# Altium schematic symbol library Schlib1.SchLib: 25 symbols
Pins are listed as number, name and electrical type; pins without a type are passive.

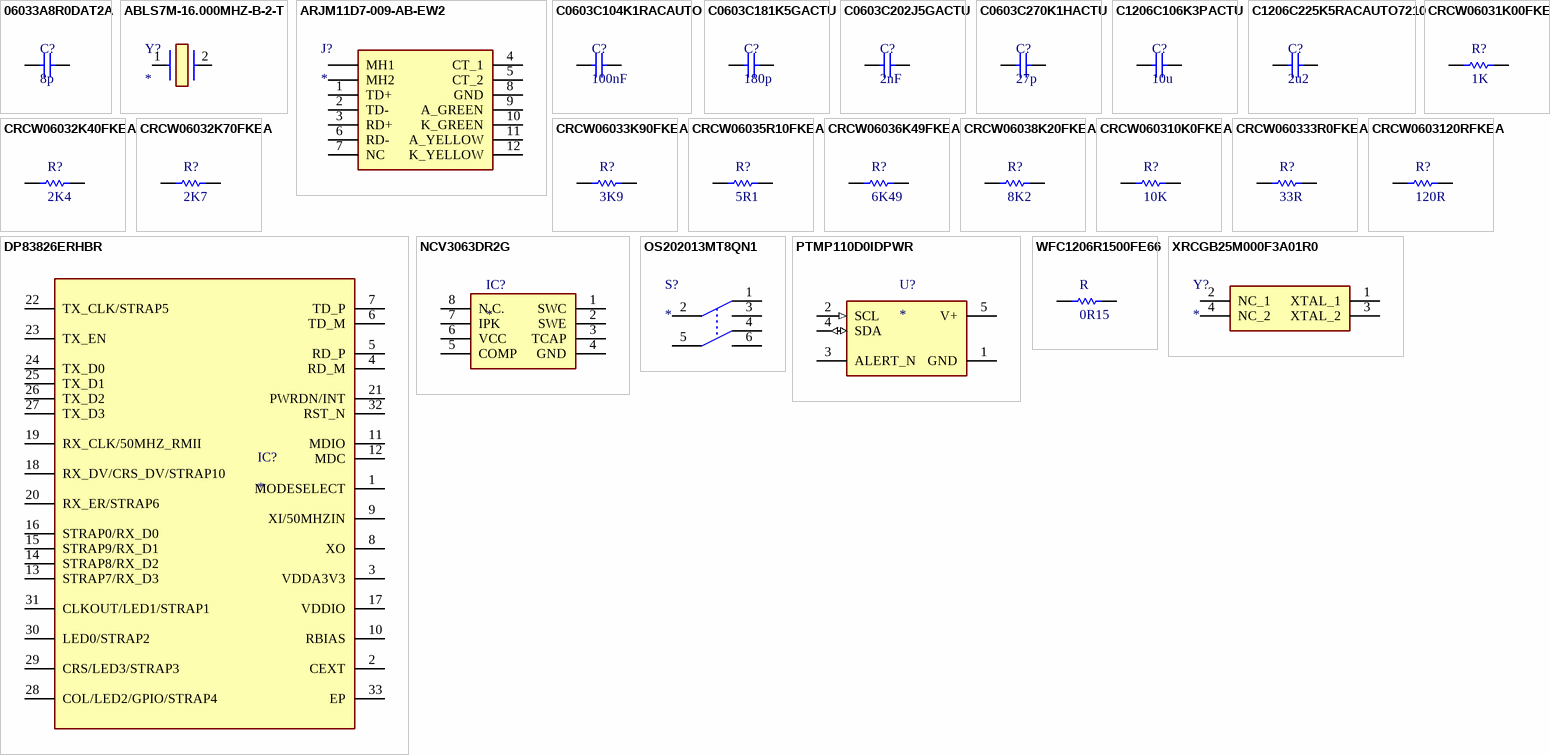
[diagram p0: symbols 06033A8R0DAT2A to XRCGB25M000F3A01R0]

## 06033A8R0DAT2A
designator C?, comment 8p
Capacitor 25V / 0603; Value: 8p
footprint 0603
pins: 1, 2

## ABLS7M-16.000MHZ-B-2-T
designator Y?
Crystal or Oscillator; Manufacturer_Name: ABRACON; Manufacturer_Part_Number: ABLS7M-16.000MHZ-B-2-T; Datasheet Link: https://abracon.com/Resonators/ABLS7M.pdf; Height: 2.3mm; Mouser Part Number: 815-ABLS7M-16-B-2-T; Mouser Price/Stock: https://www.mouser.co.uk/ProductDetail/ABRACON/ABLS7M-16.000MHZ-B-2-T?qs=%252Bk6%2F5FB6qrn1VjId6JGmFw%3D%3D; Arrow Part Number: ABLS7M-16.000MHZ-B-2-T; Arrow Price/Stock: https://www.arrow.com/en/products/abls7m-16.000mhz-b-2-t/abracon?region=nac
footprint ABLS7
pins: 1, 2

## ARJM11D7-009-AB-EW2
designator J?
Connector; Manufacturer_Name: ABRACON; Manufacturer_Part_Number: ARJM11D7-009-AB-EW2; Datasheet Link: https://abracon.com/Magnetics/ARJM11.pdf; Height: 14.05mm; Mouser Part Number: 815-RJM11D7009ABEW2; Mouser Price/Stock: https://www.mouser.co.uk/ProductDetail/ABRACON/ARJM11D7-009-AB-EW2?qs=YCa%2FAAYMW01wgGAVSiGYdQ%3D%3D; Arrow Part Number: ARJM11D7-009-AB-EW2; Arrow Price/Stock: https://www.arrow.com/en/products/arjm11d7-009-ab-ew2/abracon?utm_currency=USD&region=europe
footprint ARJM11D7009ABEW2
pins: 1 TD+, 2 TD-, 3 RD+, 4 CT_1, 5 CT_2, 6 RD-, 7 NC, 8 GND, 9 A_GREEN, 10 K_GREEN, 11 A_YELLOW, 12 K_YELLOW, MH1, MH2

## C0603C104K1RACAUTO
designator C?, comment 100nF
Capacitor 100V / 0603; Value: 100n
footprint 0603
pins: 1, 2

## C0603C181K5GACTU
designator C?, comment 180p
Capacitor 50V / 0603; Value: 180pF
footprint 0603
pins: 1, 2

## C0603C202J5GACTU
designator C?, comment 2nF
Capacitor 50V / 0603; Value: 2nF
footprint 0603
pins: 1, 2

## C0603C270K1HACTU
designator C?, comment 27p
Capacitor 100V / 0603; Value: 27p
footprint 0603
pins: 1, 2

## C1206C106K3PACTU
designator C?, comment 10u
Capacitor 50V / 1206; Value: 10u
footprint 1206
pins: 1, 2

## C1206C225K5RACAUTO7210
designator C?, comment 2u2
Capacitor 50V / 1206; Value: 2.2u
footprint 1206
pins: 1, 2

## CRCW06031K00FKEA
designator R?, comment 1K
Resistor 0.1W; Value: 1K
footprint 0603
pins: 1, 2

## CRCW06032K40FKEA
designator R?, comment 2K4
Resistor 0.1W; Value: 2K4
footprint 0603
pins: 1, 2

## CRCW06032K70FKEA
designator R?, comment 2K7
Resistor 0.1W; Value: 2K7
footprint 0603
pins: 1, 2

## CRCW06033K90FKEA
designator R?, comment 3K9
Resistor 0.1W; Value: 3K9
footprint 0603
pins: 1, 2

## CRCW06035R10FKEA
designator R?, comment 5R1
Resistor 0.1W; Value: 5R1
footprint 0603
pins: 1, 2

## CRCW06036K49FKEA
designator R?, comment 6K49
Resistor 0.1W; Value: 6K49
footprint 0603
pins: 1, 2

## CRCW06038K20FKEA
designator R?, comment 8K2
Resistor 0.1W; Value: 8K2
footprint 0603
pins: 1, 2

## CRCW060310K0FKEA
designator R?, comment 10K
Resistor 0.1W; Value: 10K
footprint 0603
pins: 1, 2

## CRCW060333R0FKEA
designator R?, comment 33R
Resistor 0.1W; Value: 33R
footprint 0603
pins: 1, 2

## CRCW0603120RFKEA
designator R?, comment 120R
Resistor 0.1W; Value: 120R
footprint 0603
pins: 1, 2

## DP83826ERHBR
designator IC?
Integrated Circuit; Manufacturer_Name: Texas Instruments; Manufacturer_Part_Number: DP83826ERHBR; Datasheet Link: https://www.ti.com/lit/ds/symlink/dp83826i.pdf?ts=1636699378977&ref_url=https%253A%252F%252Fwww.ti.com%252Fproduct%252FDP83826I; Height: 1mm; Mouser Part Number: 595-DP83826ERHBR; Mouser Price/Stock: https://www.mouser.co.uk/ProductDetail/Texas-Instruments/DP83826ERHBR?qs=xZ%2FP%252Ba9zWqY4e7L7xapfgA%3D%3D; Arrow Part Number: DP83826ERHBR; Arrow Price/Stock: https://www.arrow.com/en/products/dp83826erhbr/texas-instruments?region=nac
footprint QFN50P500X500X100-33N-D
pins: 1 MODESELECT, 2 CEXT, 3 VDDA3V3, 4 RD_M, 5 RD_P, 6 TD_M, 7 TD_P, 8 XO, 9 XI/50MHZIN, 10 RBIAS, 11 MDIO, 12 MDC, 13 STRAP7/RX_D3, 14 STRAP8/RX_D2, 15 STRAP9/RX_D1, 16 STRAP0/RX_D0, 17 VDDIO, 18 RX_DV/CRS_DV/STRAP10, 19 RX_CLK/50MHZ_RMII, 20 RX_ER/STRAP6, 21 PWRDN/INT, 22 TX_CLK/STRAP5, 23 TX_EN, 24 TX_D0, 25 TX_D1, 26 TX_D2, 27 TX_D3, 28 COL/LED2/GPIO/STRAP4, 29 CRS/LED3/STRAP3, 30 LED0/STRAP2, 31 CLKOUT/LED1/STRAP1, 32 RST_N, 33 EP

## NCV3063DR2G
designator IC?
Integrated Circuit; Manufacturer_Name: onsemi; Manufacturer_Part_Number: NCV3063DR2G; Datasheet Link: https://www.onsemi.com/pub/Collateral/NCP3063-D.PDF; Height: 1.75mm; Mouser Part Number: 863-NCV3063DR2G; Arrow Part Number: NCV3063DR2G; Arrow Price/Stock: https://www.arrow.com/en/products/ncv3063dr2g/on-semiconductor
footprint SOIC127P600X175-8N
pins: 1 SWC, 2 SWE, 3 TCAP, 4 GND, 5 COMP, 6 VCC, 7 IPK, 8 N.C.

## OS202013MT8QN1
designator S?
Switch; Manufacturer_Name: C & K COMPONENTS; Manufacturer_Part_Number: OS202013MT8QN1; Datasheet Link: https://www.ckswitches.com/media/1428/os.pdf; Height: 11mm; Mouser Part Number: 611-OS202013MT8QN1; Mouser Price/Stock: https://www.mouser.co.uk/ProductDetail/CK/OS202013MT8QN1?qs=WtljUlYws5RhlgqE4KzYAw%3D%3D; Arrow Part Number: OS202013MT8QN1; Arrow Price/Stock: https://www.arrow.com/en/products/os202013mt8qn1/ck?region=europe
footprint OS202013MT8QN1
pins: 1 NC_1, 2 COM_1, 3 NO_1, 4 NC_2, 5 COM_2, 6 NO_2

## PTMP110D0IDPWR
designator U?
No Description Available; Mfr_Name: Texas Instruments; TYPE: TYPE; RefDes: RefDes
footprint DPW0005A-MFG
pins: 1 GND (power), 2 SCL (in), 3 ALERT_N (oc), 4 SDA (io), 5 V+ (power)

## WFC1206R1500FE66
designator R, comment 0R15
Resistor 0.5W; Value: 0R15
footprint 1206
pins: 1, 2

## XRCGB25M000F3A01R0
designator Y?
Crystal or Oscillator; Manufacturer_Name: Murata Electronics; Manufacturer_Part_Number: XRCGB25M000F3A01R0; Datasheet Link: https://www.murata.com/products/productdata/8803384393758/SPEC-XRCGB25M000F3A01R0.pdf; Height: 0.7mm; Mouser Part Number: 81-XRCGB25M000F3A01R; Mouser Price/Stock: https://www.mouser.co.uk/ProductDetail/Murata-Electronics/XRCGB25M000F3A01R0?qs=xZ%2FP%252Ba9zWqYh5DvumW%252BlTA%3D%3D; Arrow Part Number: XRCGB25M000F3A01R0; Arrow Price/Stock: https://www.arrow.com/en/products/xrcgb25m000f3a01r0/murata-manufacturing?region=nac
footprint XRCGB
pins: 1 XTAL_1, 2 NC_1, 3 XTAL_2, 4 NC_2